# EAGLE library part ICL7667CBAZA (library ICL7667CBAZA)
Dual Power MOSFET Driver Check prices <https://pricing.snapeda.com/parts/ICL7667CBAZA/Renesas%20Electronics%20America%20Inc/view-part?ref=eda>
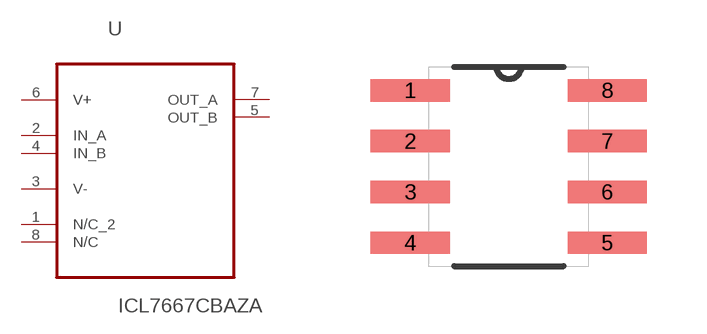
[diagram p0: symbol with the pads of SOIC127P600X175-8N; footprint SOIC127P600X175-8N]

Designator prefix U

## ICL7667CBAZA (Availability: In Stock; Description: High-Side or Low-Side Gate Driver IC Inverting 8-SOIC; MF: Renesas Electronics America Inc; MP: ICL7667CBAZA; Package: SOIC-8 Renesas Electronics; Price: None; Purchase-URL: https://pricing.snapeda.com/search/part/ICL7667CBAZA/?ref=eda)  [SOIC127P600X175-8N]
1  N/C_2  nc
2  IN_A  in
3  V-  pwr
4  IN_B  in
5  OUT_B  out
6  V+  pwr
7  OUT_A  out
8  N/C  nc

## Footprint SOIC127P600X175-8N (pad centres in mm)
smd 1.981 x 0.559: 1 -2.464,1.905; 2 -2.464,0.635; 3 -2.464,-0.635; 4 -2.464,-1.905; 5 2.464,-1.905; 6 2.464,-0.635; 7 2.464,0.635; 8 2.464,1.905